# Altium footprint library con-vg.PCBLIB: 112 footprints (part 7 of 7)
Each footprint in its own frame and in the unit in brackets; x right, y up, seen from the top. Pads: shape width x height; smd on the part's side, far side on the other; paste and mask are expansions set on the pad; w line width, h text height; cw(c..) or ccw(c..) is an arc to the next point about the centre after c.
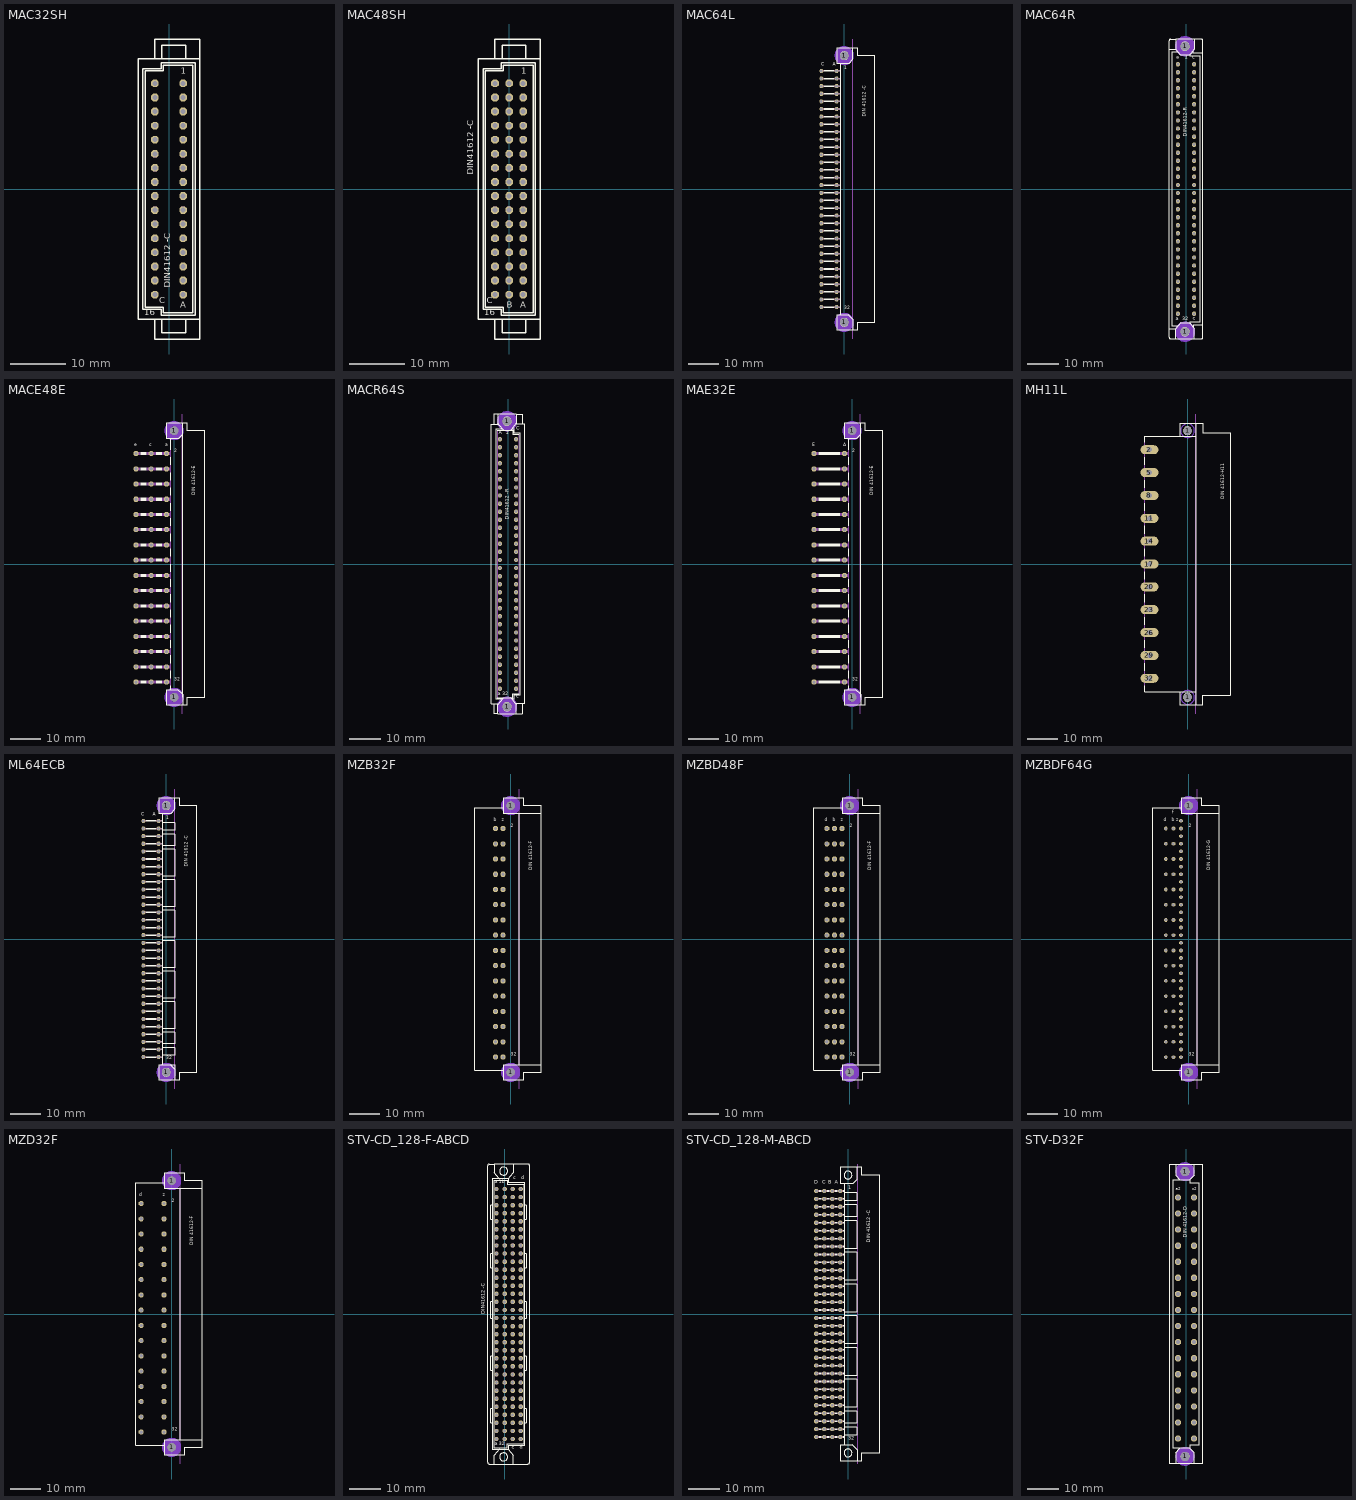
[diagram p6: the footprints below, top view; thin cyan lines are the x and y axes]

## MAC32SH [mil]
pads (32):
  oct 54x54 hole 36: A1(100,750) A2(100,650) A3(100,550) A4(100,450) A5(100,350) A6(100,250) A7(100,150) A8(100,50) A9(100,-50) A10(100,-150) A11(100,-250) A12(100,-350) A13(100,-450) A14(100,-550) A15(100,-650) A16(100,-750) C1(-100,750) C2(-100,650) C3(-100,550) C4(-100,450) C5(-100,350) C6(-100,250) C7(-100,150) C8(-100,50) C9(-100,-50) C10(-100,-150) C11(-100,-250) C12(-100,-350) C13(-100,-450) C14(-100,-550) C15(-100,-650) C16(-100,-750)
Top Overlay:
  lines w10: -100,-925 -220,-925 -220,925 -100,925 ; -100,-925 -50,-925 ; -100,-925 -100,-1065 220,-1065 220,-925 ; -100,925 -50,925 ; -100,925 -100,1065 220,1065 220,925 ; -50,-925 -50,-1020 120,-1020 120,-925 ; -50,-925 120,-925 ; -50,925 -50,1020 120,1020 120,925 ; -50,925 120,925 ; 120,-925 220,-925 ; 120,925 220,925 ; 220,-925 220,925 ; -185,-855 -55,-855 -55,-895 185,-895 185,895 -55,895 -55,855 -185,855 -185,-855 ; -170,-840 -170,840 -40,840 -40,880 170,880 170,-880 -40,-880 -40,-840 -170,-840
  text "1" at 85,800 h77.5
  text "C" at -70,-830 h77.5
  text "A" at 80,-860 h77.5
  text "16" at -175,-915 h77.5
  text "DIN41612 -C" at 25,-700 h77.5
Mechanical 16:
  rectangle: 85,-275 115,-225
  rectangle: 85,-75 115,-25
  rectangle: -115,-275 -85,-225
  rectangle: -115,-75 -85,-25
  rectangle: -115,125 -85,175
  rectangle: -115,325 -85,375
  rectangle: -115,525 -85,575
  rectangle: -115,725 -85,775
  rectangle: 85,125 115,175
  rectangle: 85,325 115,375
  rectangle: 85,525 115,575
  rectangle: 85,725 115,775
  rectangle: 85,-375 115,-325
  rectangle: 85,-175 115,-125
  rectangle: -115,-375 -85,-325
  rectangle: -115,-175 -85,-125
  rectangle: -115,25 -85,75
  rectangle: -115,225 -85,275
  rectangle: -115,425 -85,475
  rectangle: -115,625 -85,675
  rectangle: 85,25 115,75
  rectangle: 85,225 115,275
  rectangle: 85,425 115,475
  rectangle: 85,625 115,675
  rectangle: -115,-675 -85,-625
  rectangle: -115,-475 -85,-425
  rectangle: 85,-675 115,-625
  rectangle: 85,-475 115,-425
  rectangle: -115,-775 -85,-725
  rectangle: -115,-575 -85,-525
  rectangle: 85,-775 115,-725
  rectangle: 85,-575 115,-525

## MAC48SH [mil]
pads (48):
  oct 54x54 hole 36: A1(100,750) A2(100,650) A3(100,550) A4(100,450) A5(100,350) A6(100,250) A7(100,150) A8(100,50) A9(100,-50) A10(100,-150) A11(100,-250) A12(100,-350) A13(100,-450) A14(100,-550) A15(100,-650) A16(100,-750) B1(0,750) B2(0,650) B3(0,550) B4(0,450) B5(0,350) B6(0,250) B7(0,150) B8(0,50) B9(0,-50) B10(0,-150) B11(0,-250) B12(0,-350) B13(0,-450) B14(0,-550) B15(0,-650) B16(0,-750) C1(-100,750) C2(-100,650) C3(-100,550) C4(-100,450) C5(-100,350) C6(-100,250) C7(-100,150) C8(-100,50) C9(-100,-50) C10(-100,-150) C11(-100,-250) C12(-100,-350) C13(-100,-450) C14(-100,-550) C15(-100,-650) C16(-100,-750)
Top Overlay:
  lines w10: -100,-925 -220,-925 -220,925 -100,925 ; -100,-925 -50,-925 ; -100,-925 -100,-1065 220,-1065 220,-925 ; -100,925 -50,925 ; -100,925 -100,1065 220,1065 220,925 ; -50,-925 -50,-1020 120,-1020 120,-925 ; -50,-925 120,-925 ; -50,925 -50,1020 120,1020 120,925 ; -50,925 120,925 ; 120,-925 220,-925 ; 120,925 220,925 ; 220,-925 220,925 ; -185,-855 -55,-855 -55,-895 185,-895 185,895 -55,895 -55,855 -185,855 -185,-855 ; -170,-840 -170,840 -40,840 -40,880 170,880 170,-880 -40,-880 -40,-840 -170,-840
  text "1" at 85,800 h77.5
  text "C" at -160,-830 h77.5
  text "A" at 80,-860 h77.5
  text "B" at -15,-860 h77.5
  text "16" at -175,-915 h77.5
  text "DIN41612 -C" at -235,100 h77.5
Mechanical 16:
  rectangle: 85,-275 115,-225
  rectangle: 85,-75 115,-25
  rectangle: -115,-275 -85,-225
  rectangle: -115,-75 -85,-25
  rectangle: -115,125 -85,175
  rectangle: -115,325 -85,375
  rectangle: -115,525 -85,575
  rectangle: -115,725 -85,775
  rectangle: 85,125 115,175
  rectangle: 85,325 115,375
  rectangle: 85,525 115,575
  rectangle: 85,725 115,775
  rectangle: 85,-375 115,-325
  rectangle: 85,-175 115,-125
  rectangle: -115,-375 -85,-325
  rectangle: -115,-175 -85,-125
  rectangle: -115,25 -85,75
  rectangle: -115,225 -85,275
  rectangle: -115,425 -85,475
  rectangle: -115,625 -85,675
  rectangle: 85,25 115,75
  rectangle: 85,225 115,275
  rectangle: 85,425 115,475
  rectangle: 85,625 115,675
  rectangle: -115,-675 -85,-625
  rectangle: -115,-475 -85,-425
  rectangle: 85,-675 115,-625
  rectangle: 85,-475 115,-425
  rectangle: -115,-775 -85,-725
  rectangle: -115,-575 -85,-525
  rectangle: 85,-775 115,-725
  rectangle: 85,-575 115,-525
  rectangle: -15,-775 15,-725
  rectangle: -15,-675 15,-625
  rectangle: -15,-575 15,-525
  rectangle: -15,-475 15,-425
  rectangle: -15,-375 15,-325
  rectangle: -15,-275 15,-225
  rectangle: -15,-175 15,-125
  rectangle: -15,-75 15,-25
  rectangle: -15,25 15,75
  rectangle: -15,125 15,175
  rectangle: -15,225 15,275
  rectangle: -15,325 15,375
  rectangle: -15,425 15,475
  rectangle: -15,525 15,575
  rectangle: -15,625 15,675
  rectangle: -15,725 15,775

## MAC64L [mil]
pads (66):
  round 110 hole 110: 1(0,-1750) 1(0,1750)
  oct 54x54 hole 36: A1(-100,1550) A2(-100,1450) A3(-100,1350) A4(-100,1250) A5(-100,1150) A6(-100,1050) A7(-100,950) A8(-100,850) A9(-100,750) A10(-100,650) A11(-100,550) A12(-100,450) A13(-100,350) A14(-100,250) A15(-100,150) A16(-100,50) A17(-100,-50) A18(-100,-150) A19(-100,-250) A20(-100,-350) A21(-100,-450) A22(-100,-550) A23(-100,-650) A24(-100,-750) A25(-100,-850) A26(-100,-950) A27(-100,-1050) A28(-100,-1150) A29(-100,-1250) A30(-100,-1350) A31(-100,-1450) A32(-100,-1550) C1(-300,1550) C2(-300,1450) C3(-300,1350) C4(-300,1250) C5(-300,1150) C6(-300,1050) C7(-300,950) C8(-300,850) C9(-300,750) C10(-300,650) C11(-300,550) C12(-300,450) C13(-300,350) C14(-300,250) C15(-300,150) C16(-300,50) C17(-300,-50) C18(-300,-150) C19(-300,-250) C20(-300,-350) C21(-300,-450) C22(-300,-550) C23(-300,-650) C24(-300,-750) C25(-300,-850) C26(-300,-950) C27(-300,-1050) C28(-300,-1150) C29(-300,-1250) C30(-300,-1350) C31(-300,-1450) C32(-300,-1550)
Bottom Layer keep-out:
  circle w70: c0,1750 r90
  circle w70: c0,-1750 r90
Top Overlay:
  circle w10: c0,1750 r50
  circle w10: c0,-1750 r50
  rectangle: -65,1540 -50,1560
  rectangle: -265,1540 -135,1560
  rectangle: -265,1440 -135,1460
  rectangle: -265,1340 -135,1360
  rectangle: -65,1440 -50,1460
  rectangle: -65,1340 -50,1360
  rectangle: -65,1240 -50,1260
  rectangle: -265,1240 -135,1260
  rectangle: -65,1140 -50,1160
  rectangle: -65,1040 -50,1060
  rectangle: -265,1140 -135,1160
  rectangle: -265,1040 -135,1060
  rectangle: -265,940 -135,960
  rectangle: -65,940 -50,960
  rectangle: -65,840 -50,860
  rectangle: -265,840 -135,860
  rectangle: -265,740 -135,760
  rectangle: -65,740 -50,760
  rectangle: -265,640 -135,660
  rectangle: -65,640 -50,660
  rectangle: -265,540 -135,560
  rectangle: -65,540 -50,560
  rectangle: -65,440 -50,460
  rectangle: -65,340 -50,360
  rectangle: -265,440 -135,460
  rectangle: -265,340 -135,360
  rectangle: -265,240 -135,260
  rectangle: -65,240 -50,260
  rectangle: -65,140 -50,160
  rectangle: -265,140 -135,160
  rectangle: -265,40 -135,60
  rectangle: -65,40 -50,60
  rectangle: -65,-60 -50,-40
  rectangle: -265,-60 -135,-40
  rectangle: -65,-160 -50,-140
  rectangle: -265,-160 -135,-140
  rectangle: -265,-260 -135,-240
  rectangle: -65,-260 -50,-240
  rectangle: -265,-360 -135,-340
  rectangle: -65,-360 -50,-340
  rectangle: -65,-460 -50,-440
  rectangle: -65,-560 -50,-540
  rectangle: -265,-460 -135,-440
  rectangle: -265,-560 -135,-540
  rectangle: -65,-660 -50,-640
  rectangle: -265,-660 -135,-640
  rectangle: -265,-760 -135,-740
  rectangle: -65,-760 -50,-740
  rectangle: -265,-860 -135,-840
  rectangle: -65,-860 -50,-840
  rectangle: -265,-960 -135,-940
  rectangle: -65,-960 -50,-940
  rectangle: -265,-1060 -135,-1040
  rectangle: -65,-1060 -50,-1040
  rectangle: -265,-1160 -135,-1140
  rectangle: -65,-1160 -50,-1140
  rectangle: -265,-1260 -135,-1240
  rectangle: -65,-1260 -50,-1240
  rectangle: -65,-1360 -50,-1340
  rectangle: -265,-1360 -135,-1340
  rectangle: -265,-1460 -135,-1440
  rectangle: -65,-1460 -50,-1440
  rectangle: -65,-1560 -50,-1540
  rectangle: -265,-1560 -135,-1540
  lines w10: -50,-1650 -100,-1650 -100,-1850 113,-1850 ; -50,-1650 50,-1650 113,-1713 113,-1850 ; -50,-1650 -50,1650 ; -50,1650 -100,1650 -100,1850 113,1850 ; -50,1650 63,1650 113,1700 113,1850 ; 113,-1850 175,-1850 175,-1750 400,-1750 400,1750 175,1750 175,1850 113,1850
  text "C" at -300,1600 h77.5
  text "A" at -150,1600 h77.5
  text "1" at 0,1550 h77.5
  text "32" at 0,-1600 h77.5
  text "DIN 41612 -C" at 300,950 h77.5
Mechanical 1:
  lines w0: 110,-1969 110,1969
Mechanical 16:
  rectangle: -135,1540 -65,1560
  rectangle: -310,1540 -265,1560
  rectangle: -135,1440 -65,1460
  rectangle: -310,1440 -265,1460
  rectangle: -310,1340 -265,1360
  rectangle: -135,1340 -65,1360
  rectangle: -135,1240 -65,1260
  rectangle: -310,1240 -265,1260
  rectangle: -135,1140 -65,1160
  rectangle: -135,1040 -65,1060
  rectangle: -310,1140 -265,1160
  rectangle: -310,1040 -265,1060
  rectangle: -310,940 -265,960
  rectangle: -135,940 -65,960
  rectangle: -135,840 -65,860
  rectangle: -310,840 -265,860
  rectangle: -135,740 -65,760
  rectangle: -310,740 -265,760
  rectangle: -135,640 -65,660
  rectangle: -310,640 -265,660
  rectangle: -310,540 -265,560
  rectangle: -135,540 -65,560
  rectangle: -135,440 -65,460
  rectangle: -135,340 -65,360
  rectangle: -310,440 -265,460
  rectangle: -310,340 -265,360
  rectangle: -310,240 -265,260
  rectangle: -135,240 -65,260
  rectangle: -135,140 -65,160
  rectangle: -310,140 -265,160
  rectangle: -310,40 -265,60
  rectangle: -135,40 -65,60
  rectangle: -135,-60 -65,-40
  rectangle: -310,-60 -265,-40
  rectangle: -135,-160 -65,-140
  rectangle: -310,-160 -265,-140
  rectangle: -135,-260 -65,-240
  rectangle: -310,-260 -265,-240
  rectangle: -310,-360 -265,-340
  rectangle: -135,-360 -65,-340
  rectangle: -135,-460 -65,-440
  rectangle: -310,-460 -265,-440
  rectangle: -135,-660 -65,-640
  rectangle: -310,-660 -265,-640
  rectangle: -135,-560 -65,-540
  rectangle: -310,-560 -265,-540
  rectangle: -135,-760 -65,-740
  rectangle: -310,-760 -265,-740
  rectangle: -310,-860 -265,-840
  rectangle: -135,-860 -65,-840
  rectangle: -135,-960 -65,-940
  rectangle: -310,-960 -265,-940
  rectangle: -135,-1060 -65,-1040
  rectangle: -310,-1060 -265,-1040
  rectangle: -135,-1160 -65,-1140
  rectangle: -310,-1160 -265,-1140
  rectangle: -310,-1260 -265,-1240
  rectangle: -135,-1260 -65,-1240
  rectangle: -135,-1360 -65,-1340
  rectangle: -310,-1360 -265,-1340
  rectangle: -310,-1460 -265,-1440
  rectangle: -135,-1460 -65,-1440
  rectangle: -135,-1560 -65,-1540
  rectangle: -310,-1560 -265,-1540
Via Holes:
  circle w70: c0,1750 r90
  circle w70: c0,-1750 r90

## MAC64R [mil]
pads (66):
  round 110 hole 110: 1(-12,-1771.65) 1(-12,1771.65)
  oct 54x54 hole 36: A1(-100,1550) A2(-100,1450) A3(-100,1350) A4(-100,1250) A5(-100,1150) A6(-100,1050) A7(-100,950) A8(-100,850) A9(-100,750) A10(-100,650) A11(-100,550) A12(-100,450) A13(-100,350) A14(-100,250) A15(-100,150) A16(-100,50) A17(-100,-50) A18(-100,-150) A19(-100,-250) A20(-100,-350) A21(-100,-450) A22(-100,-550) A23(-100,-650) A24(-100,-750) A25(-100,-850) A26(-100,-950) A27(-100,-1050) A28(-100,-1150) A29(-100,-1250) A30(-100,-1350) A31(-100,-1450) A32(-100,-1550) C1(100,1550) C2(100,1450) C3(100,1350) C4(100,1250) C5(100,1150) C6(100,1050) C7(100,950) C8(100,850) C9(100,750) C10(100,650) C11(100,550) C12(100,450) C13(100,350) C14(100,250) C15(100,150) C16(100,50) C17(100,-50) C18(100,-150) C19(100,-250) C20(100,-350) C21(100,-450) C22(100,-550) C23(100,-650) C24(100,-750) C25(100,-850) C26(100,-950) C27(100,-1050) C28(100,-1150) C29(100,-1250) C30(100,-1350) C31(100,-1450) C32(100,-1550)
Bottom Layer keep-out:
  circle w70: c-12,1771.65 r90
  circle w70: c-12,-1771.65 r90
Top Overlay:
  circle w10: c-12,-1771.65 r50
  circle w10: c-12,1771.65 r50
  lines w10: -115,-1720 -115,-1700 -175,-1700 -175,1700 -115,1700 -115,1720 ; 55,1670 55,1650 175,1650 175,-1650 55,-1650 55,-1675 45,-1660 ; 90,-1715 90,-1685 210,-1685 ; 90,1715 90,1685 210,1685 ; -210,-1735 -210,-1840 ccw(c-190,-1840) -190,-1860 -125,-1860 ; -210,-1735 -210,1735 ; -210,-1735 -125,-1735 ; -210,1735 -210,1840 cw(c-190,1840) -190,1860 -125,1860 ; -210,1735 -125,1735 ; -125,-1860 -125,-1735 ; -125,-1860 105,-1860 ; -125,-1735 -65,-1660 45,-1660 ; -125,1735 -125,1860 ; -125,1735 -65,1660 45,1660 105,1735 105,1860 ; -125,1860 105,1860 ; 45,-1660 105,-1735 105,-1860 ; 105,-1860 190,-1860 ccw(c190,-1840) 210,-1840 210,-1685 ; 105,1860 190,1860 cw(c190,1840) 210,1840 210,1685 ; 210,-1685 210,1685
  text "32" at -45,-1645 h77.5
  text "a" at -125,-1645 h77.5
  text "c" at 85,-1640 h77.5
  text "1" at -15,1600 h77.5
  text "a" at -120,1595 h77.5
  text "c" at 80,1595 h77.5
  text "DIN41612-R" at 25,650 h77.5
Via Holes:
  circle w70: c-12,1771.65 r90
  circle w70: c-12,-1771.65 r90

## MACE48E [mil]
pads (50):
  round 110 hole 110: 1(0,-1750) 1(0,1750)
  oct 66x66 hole 44: A2(-100,1450) A4(-100,1250) A6(-100,1050) A8(-100,850) A10(-100,650) A12(-100,450) A14(-100,250) A16(-100,50) A18(-100,-150) A20(-100,-350) A22(-100,-550) A24(-100,-750) A26(-100,-950) A28(-100,-1150) A30(-100,-1350) A32(-100,-1550) C2(-300,1450) C4(-300,1250) C6(-300,1050) C8(-300,850) C10(-300,650) C12(-300,450) C14(-300,250) C16(-300,50) C18(-300,-150) C20(-300,-350) C22(-300,-550) C24(-300,-750) C26(-300,-950) C28(-300,-1150) C30(-300,-1350) C32(-300,-1550) E2(-500,1450) E4(-500,1250) E6(-500,1050) E8(-500,850) E10(-500,650) E12(-500,450) E14(-500,250) E16(-500,50) E18(-500,-150) E20(-500,-350) E22(-500,-550) E24(-500,-750) E26(-500,-950) E28(-500,-1150) E30(-500,-1350) E32(-500,-1550)
Bottom Layer keep-out:
  circle w70: c0,1750 r90
  circle w70: c0,-1750 r90
Top Overlay:
  rectangle: -240,1430 -160,1470
  rectangle: -440,1430 -360,1470
  rectangle: -240,1230 -160,1270
  rectangle: -440,1230 -360,1270
  rectangle: -240,1030 -160,1070
  rectangle: -440,1030 -360,1070
  rectangle: -240,830 -160,870
  rectangle: -440,830 -360,870
  rectangle: -240,630 -160,670
  rectangle: -440,630 -360,670
  rectangle: -240,430 -160,470
  rectangle: -440,430 -360,470
  rectangle: -240,230 -160,270
  rectangle: -440,230 -360,270
  rectangle: -240,30 -160,70
  rectangle: -440,30 -360,70
  rectangle: -240,-170 -160,-130
  rectangle: -440,-170 -360,-130
  rectangle: -240,-370 -160,-330
  rectangle: -440,-370 -360,-330
  rectangle: -240,-570 -160,-530
  rectangle: -440,-570 -360,-530
  rectangle: -240,-770 -160,-730
  rectangle: -440,-770 -360,-730
  rectangle: -240,-970 -160,-930
  rectangle: -440,-970 -360,-930
  rectangle: -240,-1170 -160,-1130
  rectangle: -440,-1170 -360,-1130
  rectangle: -240,-1370 -160,-1330
  rectangle: -440,-1370 -360,-1330
  rectangle: -240,-1570 -160,-1530
  rectangle: -440,-1570 -360,-1530
  lines w2: 109,-1750 109,1700
  lines w10: -50,-1600 -50,-1650 ; -50,-1500 -50,-1400 ; -50,-1300 -50,-1200 ; -50,-1100 -50,-1000 ; -50,-900 -50,-800 ; -50,-700 -50,-600 ; -50,-500 -50,-400 ; -50,-300 -50,-200 ; -50,-100 -50,0 ; -50,100 -50,200 ; -50,300 -50,400 ; -50,500 -50,600 ; -50,700 -50,800 ; -50,900 -50,1000 ; -50,1100 -50,1200 ; -50,1300 -50,1400 ; -50,1500 -50,1650 ; -50,-1650 -100,-1650 -100,-1850 113,-1850 ; -50,-1650 50,-1650 113,-1713 113,-1850 ; -50,1650 -100,1650 -100,1850 113,1850 ; -50,1650 63,1650 113,1700 113,1850 ; 113,-1850 175,-1850 175,-1750 400,-1750 400,1750 175,1750 175,1850 113,1850
  text "32" at 0,-1550 h77.5
  text "2" at 0,1450 h77.5
  text "DIN 41612-E" at 300,900 h77.5
  text "e" at -525,1525 h77.5
  text "c" at -325,1525 h77.5
  text "a" at -115,1525 h77.5
Mechanical 1:
  lines w0: 110,-1969 110,1969
Mechanical 16:
  rectangle: -160,1430 -50,1470
  rectangle: -360,1430 -240,1470
  rectangle: -510,1430 -440,1470
  rectangle: -160,1230 -50,1270
  rectangle: -360,1230 -240,1270
  rectangle: -510,1230 -440,1270
  rectangle: -160,1030 -50,1070
  rectangle: -360,1030 -240,1070
  rectangle: -510,1030 -440,1070
  rectangle: -160,830 -50,870
  rectangle: -360,830 -240,870
  rectangle: -510,830 -440,870
  rectangle: -160,630 -50,670
  rectangle: -360,630 -240,670
  rectangle: -510,630 -440,670
  rectangle: -160,430 -50,470
  rectangle: -360,430 -240,470
  rectangle: -510,430 -440,470
  rectangle: -160,230 -50,270
  rectangle: -360,230 -240,270
  rectangle: -510,230 -440,270
  rectangle: -160,30 -50,70
  rectangle: -360,30 -240,70
  rectangle: -510,30 -440,70
  rectangle: -160,-170 -50,-130
  rectangle: -360,-170 -240,-130
  rectangle: -510,-170 -440,-130
  rectangle: -160,-370 -50,-330
  rectangle: -360,-370 -240,-330
  rectangle: -510,-370 -440,-330
  rectangle: -160,-570 -50,-530
  rectangle: -360,-570 -240,-530
  rectangle: -510,-570 -440,-530
  rectangle: -160,-770 -50,-730
  rectangle: -360,-770 -240,-730
  rectangle: -510,-770 -440,-730
  rectangle: -160,-970 -50,-930
  rectangle: -360,-970 -240,-930
  rectangle: -510,-970 -440,-930
  rectangle: -160,-1170 -50,-1130
  rectangle: -360,-1170 -240,-1130
  rectangle: -510,-1170 -440,-1130
  rectangle: -160,-1370 -50,-1330
  rectangle: -360,-1370 -240,-1330
  rectangle: -510,-1370 -440,-1330
  rectangle: -160,-1570 -50,-1530
  rectangle: -360,-1570 -240,-1530
  rectangle: -510,-1570 -440,-1530
  lines w10: -50,-1650 -50,1650
Via Holes:
  circle w70: c0,1750 r90
  circle w70: c0,-1750 r90

## MACR64S [mil]
pads (66):
  round 110 hole 110: 1(-12,-1772) 1(-12,1772)
  oct 54x54 hole 36: A1(-100,1550) A2(-100,1450) A3(-100,1350) A4(-100,1250) A5(-100,1150) A6(-100,1050) A7(-100,950) A8(-100,850) A9(-100,750) A10(-100,650) A11(-100,550) A12(-100,450) A13(-100,350) A14(-100,250) A15(-100,150) A16(-100,50) A17(-100,-50) A18(-100,-150) A19(-100,-250) A20(-100,-350) A21(-100,-450) A22(-100,-550) A23(-100,-650) A24(-100,-750) A25(-100,-850) A26(-100,-950) A27(-100,-1050) A28(-100,-1150) A29(-100,-1250) A30(-100,-1350) A31(-100,-1450) A32(-100,-1550) C1(100,1550) C2(100,1450) C3(100,1350) C4(100,1250) C5(100,1150) C6(100,1050) C7(100,950) C8(100,850) C9(100,750) C10(100,650) C11(100,550) C12(100,450) C13(100,350) C14(100,250) C15(100,150) C16(100,50) C17(100,-50) C18(100,-150) C19(100,-250) C20(100,-350) C21(100,-450) C22(100,-550) C23(100,-650) C24(100,-750) C25(100,-850) C26(100,-950) C27(100,-1050) C28(100,-1150) C29(100,-1250) C30(100,-1350) C31(100,-1450) C32(100,-1550)
Bottom Layer keep-out:
  circle w70: c-12,-1772 r90
  circle w70: c-12,1772 r90
Top Overlay:
  circle w10: c-12,-1772 r50
  circle w10: c-12,1772 r50
  lines w10: -135,-1660 -55,-1660 ; -135,1660 -50,1660 ; -115,-1735 -175,-1735 ; -115,1735 -175,1735 ; 95,-1735 175,-1735 ; 95,1735 175,1735 ; 135,-1610 60,-1610 60,-1660 35,-1660 ; 135,1610 60,1610 60,1660 35,1660 ; -175,-1735 -210,-1735 -210,1735 -175,1735 ; -175,-1735 -175,-1860 -125,-1860 ; -175,1735 -175,1860 -125,1860 ; -125,-1860 -125,-1750 -65,-1675 ; -125,-1860 105,-1860 ; -125,1860 105,1860 ; -125,1860 -125,1750 -65,1675 ; -65,-1675 -150,-1675 -150,1675 -65,1675 ; -65,-1675 -55,-1660 ; -65,1675 -50,1660 ; -55,-1660 35,-1660 ; -50,1660 35,1660 ; 35,-1660 45,-1675 ; 35,1660 45,1675 ; 45,-1675 75,-1675 75,-1625 150,-1625 150,1625 75,1625 75,1675 45,1675 ; 45,-1675 105,-1750 105,-1860 ; 45,1675 105,1750 105,1860 ; 105,-1860 175,-1860 175,-1735 ; 105,1860 175,1860 175,1735 ; 175,-1735 210,-1735 210,1735 175,1735
  text "C" at 100,1650 h77.5
  text "32" at -70,-1650 h77.5
  text "A" at -115,1595 h77.5
  text "1" at -25,1595 h77.5
  text "DIN41612 -R" at 25,550 h77.5
  text "a" at -125,-1650 h77.5
  text "c" at 100,-1680.32 h77.5
Mechanical 16:
  rectangle: -110,-1560 -90,-1540
  rectangle: -110,-1460 -90,-1440
  rectangle: 90,-1560 110,-1540
  rectangle: 90,-1460 110,-1440
  rectangle: 90,-1360 110,-1340
  rectangle: -110,-1360 -90,-1340
  rectangle: -110,-1260 -90,-1240
  rectangle: 90,-1260 110,-1240
  rectangle: -110,-1160 -90,-1140
  rectangle: 90,-1160 110,-1140
  rectangle: 90,-1060 110,-1040
  rectangle: -110,-1060 -90,-1040
  rectangle: -110,-960 -90,-940
  rectangle: 90,-960 110,-940
  rectangle: -110,-860 -90,-840
  rectangle: -110,-760 -90,-740
  rectangle: 90,-860 110,-840
  rectangle: 90,-760 110,-740
  rectangle: -110,-660 -90,-640
  rectangle: -110,-560 -90,-540
  rectangle: 90,-660 110,-640
  rectangle: 90,-560 110,-540
  rectangle: -110,-460 -90,-440
  rectangle: -110,-360 -90,-340
  rectangle: -110,-260 -90,-240
  rectangle: 90,-460 110,-440
  rectangle: 90,-360 110,-340
  rectangle: 90,-260 110,-240
  rectangle: -110,-160 -90,-140
  rectangle: -110,-60 -90,-40
  rectangle: 90,-160 110,-140
  rectangle: 90,-60 110,-40
  rectangle: 90,40 110,60
  rectangle: -110,40 -90,60
  rectangle: -110,140 -90,160
  rectangle: 90,140 110,160
  rectangle: 90,240 110,260
  rectangle: -110,240 -90,260
  rectangle: 90,340 110,360
  rectangle: 90,440 110,460
  rectangle: -110,340 -90,360
  rectangle: -110,440 -90,460
  rectangle: 90,540 110,560
  rectangle: 90,640 110,660
  rectangle: -110,540 -90,560
  rectangle: -110,640 -90,660
  rectangle: -110,740 -90,760
  rectangle: -110,840 -90,860
  rectangle: 90,740 110,760
  rectangle: 90,840 110,860
  rectangle: 90,940 110,960
  rectangle: 90,1040 110,1060
  rectangle: 90,1140 110,1160
  rectangle: -110,940 -90,960
  rectangle: -110,1040 -90,1060
  rectangle: -110,1140 -90,1160
  rectangle: 90,1240 110,1260
  rectangle: 90,1340 110,1360
  rectangle: -110,1240 -90,1260
  rectangle: -110,1340 -90,1360
  rectangle: -110,1440 -90,1460
  rectangle: -110,1540 -90,1560
  rectangle: 90,1440 110,1460
  rectangle: 90,1540 110,1560
  lines w10: -135,-1660 -135,1660 ; 135,-1610 135,1610
Via Holes:
  circle w70: c-12,-1772 r90
  circle w70: c-12,1772 r90

## MAE32E [mil]
pads (34):
  round 110 hole 110: 1(0,-1750) 1(0,1750)
  oct 66x66 hole 44: A2(-100,1450) A4(-100,1250) A6(-100,1050) A8(-100,850) A10(-100,650) A12(-100,450) A14(-100,250) A16(-100,50) A18(-100,-150) A20(-100,-350) A22(-100,-550) A24(-100,-750) A26(-100,-950) A28(-100,-1150) A30(-100,-1350) A32(-100,-1550) E2(-500,1450) E4(-500,1250) E6(-500,1050) E8(-500,850) E10(-500,650) E12(-500,450) E14(-500,250) E16(-500,50) E18(-500,-150) E20(-500,-350) E22(-500,-550) E24(-500,-750) E26(-500,-950) E28(-500,-1150) E30(-500,-1350) E32(-500,-1550)
Bottom Layer keep-out:
  circle w70: c0,1750 r90
  circle w70: c0,-1750 r90
Top Overlay:
  rectangle: -440,1430 -160,1470
  rectangle: -440,1230 -160,1270
  rectangle: -440,1030 -160,1070
  rectangle: -440,830 -160,870
  rectangle: -440,630 -160,670
  rectangle: -440,430 -160,470
  rectangle: -440,230 -160,270
  rectangle: -440,30 -160,70
  rectangle: -440,-170 -160,-130
  rectangle: -440,-370 -160,-330
  rectangle: -440,-570 -160,-530
  rectangle: -440,-770 -160,-730
  rectangle: -440,-970 -160,-930
  rectangle: -440,-1170 -160,-1130
  rectangle: -440,-1370 -160,-1330
  rectangle: -440,-1570 -160,-1530
  lines w2: 109,-1750 109,1700
  lines w10: -50,-1600 -50,-1650 ; -50,-1500 -50,-1400 ; -50,-1300 -50,-1200 ; -50,-1100 -50,-1000 ; -50,-900 -50,-800 ; -50,-700 -50,-600 ; -50,-500 -50,-400 ; -50,-300 -50,-200 ; -50,-100 -50,0 ; -50,100 -50,200 ; -50,300 -50,400 ; -50,500 -50,600 ; -50,700 -50,800 ; -50,900 -50,1000 ; -50,1100 -50,1200 ; -50,1300 -50,1400 ; -50,1500 -50,1650 ; -50,-1650 -100,-1650 -100,-1850 113,-1850 ; -50,-1650 50,-1650 113,-1713 113,-1850 ; -50,1650 -100,1650 -100,1850 113,1850 ; -50,1650 63,1650 113,1700 113,1850 ; 113,-1850 175,-1850 175,-1750 400,-1750 400,1750 175,1750 175,1850 113,1850
  text "A" at -115,1525 h77.5
  text "32" at 0,-1550 h77.5
  text "2" at 0,1450 h77.5
  text "E" at -525,1525 h77.5
  text "DIN 41612-E" at 300,900 h77.5
Mechanical 1:
  lines w0: 110,-1969 110,1969
Mechanical 16:
  rectangle: -160,1430 -50,1470
  rectangle: -510,1430 -440,1470
  rectangle: -160,1230 -50,1270
  rectangle: -510,1230 -440,1270
  rectangle: -160,1030 -50,1070
  rectangle: -510,1030 -440,1070
  rectangle: -160,830 -50,870
  rectangle: -510,830 -440,870
  rectangle: -160,630 -50,670
  rectangle: -510,630 -440,670
  rectangle: -160,430 -50,470
  rectangle: -510,430 -440,470
  rectangle: -160,230 -50,270
  rectangle: -510,230 -440,270
  rectangle: -160,30 -50,70
  rectangle: -510,30 -440,70
  rectangle: -160,-170 -50,-130
  rectangle: -510,-170 -440,-130
  rectangle: -160,-370 -50,-330
  rectangle: -510,-370 -440,-330
  rectangle: -160,-570 -50,-530
  rectangle: -510,-570 -440,-530
  rectangle: -160,-770 -50,-730
  rectangle: -510,-770 -440,-730
  rectangle: -160,-970 -50,-930
  rectangle: -510,-970 -440,-930
  rectangle: -160,-1170 -50,-1130
  rectangle: -510,-1170 -440,-1130
  rectangle: -160,-1370 -50,-1330
  rectangle: -510,-1370 -440,-1330
  rectangle: -160,-1570 -50,-1530
  rectangle: -510,-1570 -440,-1530
  lines w10: -50,-1650 -50,1650
Via Holes:
  circle w70: c0,1750 r90
  circle w70: c0,-1750 r90

## MH11L [mm]
pads (13):
  round 2.794 hole 2.794: 1(0,-44.45) 1(0,44.45)
  oval 6x3 hole 1.676: 2(-12.7,38.1) 5(-12.7,30.48) 8(-12.7,22.86) 11(-12.7,15.24) 14(-12.7,7.62) 17(-12.7,0) 20(-12.7,-7.62) 23(-12.7,-15.24) 26(-12.7,-22.86) 29(-12.7,-30.48) 32(-12.7,-38.1)
Bottom Layer keep-out:
  circle w0.254: c0,-44.45 r2.286
  circle w0.254: c0,44.45 r2.286
Top Overlay:
  circle w0.254: c0,-44.45 r1.27
  circle w0.254: c0,44.45 r1.27
  lines w0.051: 2.794,-42.418 2.794,42.418
  lines w0.254: -14.376,-42.545 -14.376,-40.64 ; -14.376,-35.56 -14.376,-33.02 ; -14.376,-27.94 -14.376,-25.4 ; -14.376,-20.32 -14.376,-17.78 ; -14.376,-12.7 -14.376,-10.16 ; -14.376,-5.08 -14.376,-2.54 ; -14.376,2.54 -14.376,5.08 ; -14.376,10.16 -14.376,12.7 ; -14.376,17.78 -14.376,20.32 ; -14.376,25.4 -14.376,27.94 ; -14.376,33.02 -14.376,35.56 ; -14.376,40.64 -14.376,42.545 ; -14.313,-42.6 2.794,-42.6 2.794,-46.99 ; -14.313,42.6 2.794,42.6 2.794,46.99 ; -2.54,-42.672 -2.54,-46.99 2.794,-46.99 ; -2.54,42.672 -2.54,46.99 2.794,46.99 ; 2.794,-46.99 5.08,-46.99 5.08,-43.815 14.224,-43.815 14.224,43.815 5.08,43.815 5.08,46.99 2.794,46.99
  text "DIN 41612-H11" at 12.7,21.59 h1.97
Mechanical 1:
  lines w0: 2.794,-50.013 2.794,50.013
Mechanical 16:
  lines w0.254: -14.376,-40.64 -14.376,-35.56 ; -14.376,-33.02 -14.376,-27.94 ; -14.376,-25.4 -14.376,-20.32 ; -14.376,-17.78 -14.376,-12.7 ; -14.376,-10.16 -14.376,-5.08 ; -14.376,-2.54 -14.376,2.54 ; -14.376,5.08 -14.376,10.16 ; -14.376,12.7 -14.376,17.78 ; -14.376,20.32 -14.376,25.4 ; -14.376,27.94 -14.376,33.02 ; -14.376,35.56 -14.376,40.64
Via Holes:
  circle w0.254: c0,-44.45 r2.286
  circle w0.254: c0,44.45 r2.286

## ML64ECB [mil]
pads (66):
  round 110 hole 110: 1(0,-1750) 1(0,1750)
  oct 54x54 hole 36: 10C(-300,650) 11C(-300,550) 12A(-100,450) 12C(-300,450) 13A(-100,350) 13C(-300,350) 14A(-100,250) 15A(-100,150) 15C(-300,150) 16A(-100,50) 16C(-300,50) 17A(-100,-50) 19A(-100,-250) 19C(-300,-250) 21A(-100,-450) 22A(-100,-550) 23A(-100,-650) 23C(-300,-650) 24A(-100,-750) 25A(-100,-850) 26A(-100,-950) 26C(-300,-950) +5V(-100,1550) +5V@1(-300,1550) A0(-300,1150) A1(-300,950) A2(-100,1050) A3(-300,1050) A4(-100,950) A5(-100,850) A6(-100,750) A7(-300,750) A8(-300,850) A9(-100,-1350) A10(-300,-150) A11(-300,-50) A12(-300,-1050) A13(-100,-1250) A14(-100,-150) A15(-300,-1150) BUSAK(-100,-1450) BUSRQ(-100,550) CLK(-300,-1250) D0(-300,1450) D1(-300,250) D2(-300,1250) D3(-100,1250) D4(-100,1150) D5(-100,1450) D6(-100,1350) D7(-300,1350) GND(-100,-1550) GND@1(-300,-1550) HALT(-300,-850) INT(-300,-450) IORQ(-100,-1050) M1(-100,-350) MREQ(-300,-1350) NMI(-300,-350) RD(-300,-750) RESET(-300,-1450) RFSH(-100,-1150) WAIT(-100,650) WR(-300,-550)
Bottom Layer keep-out:
  circle w70: c0,1750 r90
  circle w70: c0,-1750 r90
Top Overlay:
  circle w10: c0,1750 r50
  circle w10: c0,-1750 r50
  rectangle: -65,1540 -50,1560
  rectangle: -265,1540 -135,1560
  rectangle: -265,1440 -135,1460
  rectangle: -265,1340 -135,1360
  rectangle: -65,1440 -50,1460
  rectangle: -65,1340 -50,1360
  rectangle: -65,1240 -50,1260
  rectangle: -265,1240 -135,1260
  rectangle: -65,1140 -50,1160
  rectangle: -65,1040 -50,1060
  rectangle: -265,1140 -135,1160
  rectangle: -265,1040 -135,1060
  rectangle: -265,940 -135,960
  rectangle: -65,940 -50,960
  rectangle: -65,840 -50,860
  rectangle: -265,840 -135,860
  rectangle: -265,740 -135,760
  rectangle: -65,740 -50,760
  rectangle: -265,640 -135,660
  rectangle: -65,640 -50,660
  rectangle: -265,540 -135,560
  rectangle: -65,540 -50,560
  rectangle: -65,440 -50,460
  rectangle: -65,340 -50,360
  rectangle: -265,440 -135,460
  rectangle: -265,340 -135,360
  rectangle: -265,240 -135,260
  rectangle: -65,240 -50,260
  rectangle: -65,140 -50,160
  rectangle: -265,140 -135,160
  rectangle: -265,40 -135,60
  rectangle: -65,40 -50,60
  rectangle: -65,-60 -50,-40
  rectangle: -265,-60 -135,-40
  rectangle: -65,-160 -50,-140
  rectangle: -265,-160 -135,-140
  rectangle: -265,-260 -135,-240
  rectangle: -65,-260 -50,-240
  rectangle: -265,-360 -135,-340
  rectangle: -65,-360 -50,-340
  rectangle: -65,-460 -50,-440
  rectangle: -65,-560 -50,-540
  rectangle: -265,-460 -135,-440
  rectangle: -265,-560 -135,-540
  rectangle: -65,-660 -50,-640
  rectangle: -265,-660 -135,-640
  rectangle: -265,-760 -135,-740
  rectangle: -65,-760 -50,-740
  rectangle: -265,-860 -135,-840
  rectangle: -65,-860 -50,-840
  rectangle: -265,-960 -135,-940
  rectangle: -65,-960 -50,-940
  rectangle: -265,-1060 -135,-1040
  rectangle: -65,-1060 -50,-1040
  rectangle: -265,-1160 -135,-1140
  rectangle: -65,-1160 -50,-1140
  rectangle: -265,-1260 -135,-1240
  rectangle: -65,-1260 -50,-1240
  rectangle: -65,-1360 -50,-1340
  rectangle: -265,-1360 -135,-1340
  rectangle: -265,-1460 -135,-1440
  rectangle: -65,-1460 -50,-1440
  rectangle: -65,-1560 -50,-1540
  rectangle: -265,-1560 -135,-1540
  lines w10: -50,-1650 -100,-1650 -100,-1850 113,-1850 ; -50,-1650 50,-1650 ; -50,-1650 -50,-1525 ; -50,-1525 -50,-1425 ; -50,-1525 110,-1525 110,-1425 -50,-1425 ; -50,-1425 -50,-1375 ; -50,-1375 -50,-1225 ; -50,-1375 110,-1375 110,-1225 -50,-1225 ; -50,-1225 -50,-1175 ; -50,-1175 -50,-825 ; -50,-1175 110,-1175 110,-825 -50,-825 ; -50,-825 -50,-775 ; -50,-775 -50,-425 ; -50,-775 110,-775 110,-425 -50,-425 ; -50,-425 -50,-375 ; -50,-375 -50,-25 ; -50,-375 110,-375 110,-25 -50,-25 ; -50,-25 -50,25 ; -50,25 -50,375 ; -50,25 110,25 110,375 -50,375 ; -50,375 -50,425 ; -50,425 -50,775 ; -50,425 110,425 110,775 -50,775 ; -50,775 -50,825 ; -50,825 -50,1175 ; -50,825 110,825 110,1175 -50,1175 ; -50,1175 -50,1225 ; -50,1225 -50,1375 ; -50,1225 110,1225 110,1375 -50,1375 ; -50,1375 -50,1425 ; -50,1425 -50,1525 ; -50,1425 110,1425 110,1525 -50,1525 ; -50,1525 -50,1650 ; -50,1650 -100,1650 -100,1850 113,1850 ; -50,1650 63,1650 113,1700 113,1850 ; 50,-1650 113,-1713 ; 50,-1650 113,-1650 113,-1713 ; 113,-1850 175,-1850 175,-1750 400,-1750 400,1750 175,1750 175,1850 113,1850 ; 113,-1850 113,-1713
  text "C" at -325,1600 h77.5
  text "A" at -175,1600 h77.5
  text "1" at 0,1550 h77.5
  text "32" at 0,-1600 h77.5
  text "DIN 41612 -C" at 300,950 h77.5
Mechanical 1:
  lines w0: 110,-1969 110,1969
Mechanical 16:
  rectangle: -135,1540 -65,1560
  rectangle: -310,1540 -265,1560
  rectangle: -135,1440 -65,1460
  rectangle: -310,1440 -265,1460
  rectangle: -310,1340 -265,1360
  rectangle: -135,1340 -65,1360
  rectangle: -135,1240 -65,1260
  rectangle: -310,1240 -265,1260
  rectangle: -135,1140 -65,1160
  rectangle: -135,1040 -65,1060
  rectangle: -310,1140 -265,1160
  rectangle: -310,1040 -265,1060
  rectangle: -310,940 -265,960
  rectangle: -135,940 -65,960
  rectangle: -135,840 -65,860
  rectangle: -310,840 -265,860
  rectangle: -135,740 -65,760
  rectangle: -310,740 -265,760
  rectangle: -135,640 -65,660
  rectangle: -310,640 -265,660
  rectangle: -310,540 -265,560
  rectangle: -135,540 -65,560
  rectangle: -135,440 -65,460
  rectangle: -135,340 -65,360
  rectangle: -310,440 -265,460
  rectangle: -310,340 -265,360
  rectangle: -310,240 -265,260
  rectangle: -135,240 -65,260
  rectangle: -135,140 -65,160
  rectangle: -310,140 -265,160
  rectangle: -310,40 -265,60
  rectangle: -135,40 -65,60
  rectangle: -135,-60 -65,-40
  rectangle: -310,-60 -265,-40
  rectangle: -135,-160 -65,-140
  rectangle: -310,-160 -265,-140
  rectangle: -135,-260 -65,-240
  rectangle: -310,-260 -265,-240
  rectangle: -310,-360 -265,-340
  rectangle: -135,-360 -65,-340
  rectangle: -135,-460 -65,-440
  rectangle: -310,-460 -265,-440
  rectangle: -135,-660 -65,-640
  rectangle: -310,-660 -265,-640
  rectangle: -135,-560 -65,-540
  rectangle: -310,-560 -265,-540
  rectangle: -135,-760 -65,-740
  rectangle: -310,-760 -265,-740
  rectangle: -310,-860 -265,-840
  rectangle: -135,-860 -65,-840
  rectangle: -135,-960 -65,-940
  rectangle: -310,-960 -265,-940
  rectangle: -135,-1060 -65,-1040
  rectangle: -310,-1060 -265,-1040
  rectangle: -135,-1160 -65,-1140
  rectangle: -310,-1160 -265,-1140
  rectangle: -310,-1260 -265,-1240
  rectangle: -135,-1260 -65,-1240
  rectangle: -135,-1360 -65,-1340
  rectangle: -310,-1360 -265,-1340
  rectangle: -310,-1460 -265,-1440
  rectangle: -135,-1460 -65,-1440
  rectangle: -135,-1560 -65,-1540
  rectangle: -310,-1560 -265,-1540
Via Holes:
  circle w70: c0,1750 r90
  circle w70: c0,-1750 r90

## MZB32F [mil]
pads (34):
  round 110 hole 110: 1(0,-1750) 1(0,1750)
  oct 66x66 hole 44: B2(-200,1450) B4(-200,1250) B6(-200,1050) B8(-200,850) B10(-200,650) B12(-200,450) B14(-200,250) B16(-200,50) B18(-200,-150) B20(-200,-350) B22(-200,-550) B24(-200,-750) B26(-200,-950) B28(-200,-1150) B30(-200,-1350) B32(-200,-1550) Z2(-100,1450) Z4(-100,1250) Z6(-100,1050) Z8(-100,850) Z10(-100,650) Z12(-100,450) Z14(-100,250) Z16(-100,50) Z18(-100,-150) Z20(-100,-350) Z22(-100,-550) Z24(-100,-750) Z26(-100,-950) Z28(-100,-1150) Z30(-100,-1350) Z32(-100,-1550)
Bottom Layer keep-out:
  circle w70: c0,1750 r90
  circle w70: c0,-1750 r90
Top Overlay:
  lines w2: 109,-1650 109,1645
  lines w10: -470,-1723 -100,-1723 ; -470,-1720 -470,1720 ; -470,1723 -100,1723 ; 398,1650 -100,1650 -100,1723 ; -100,-1723 -100,-1650 109,-1650 400,-1650 ; -100,-1723 -100,-1850 175,-1850 175,-1750 400,-1750 400,-1650 ; -100,1723 -100,1850 175,1850 175,1750 400,1750 400,-1650
  text "32" at 0,-1550 h77.5
  text "2" at 0,1450 h77.5
  text "DIN 41612-F" at 300,900 h77.5
  text "b" at -225,1525 h77.5
  text "z" at -115,1525 h77.5
Mechanical 1:
  lines w0: 110,-1969 110,1969
Via Holes:
  circle w70: c0,1750 r90
  circle w70: c0,-1750 r90

## MZBD48F [mil]
pads (50):
  round 110 hole 110: 1(0,-1750) 1(0,1750)
  oct 66x66 hole 44: B2(-200,1450) B4(-200,1250) B6(-200,1050) B8(-200,850) B10(-200,650) B12(-200,450) B14(-200,250) B16(-200,50) B18(-200,-150) B20(-200,-350) B22(-200,-550) B24(-200,-750) B26(-200,-950) B28(-200,-1150) B30(-200,-1350) B32(-200,-1550) D2(-300,1450) D4(-300,1250) D6(-300,1050) D8(-300,850) D10(-300,650) D12(-300,450) D14(-300,250) D16(-300,50) D18(-300,-150) D20(-300,-350) D22(-300,-550) D24(-300,-750) D26(-300,-950) D28(-300,-1150) D30(-300,-1350) D32(-300,-1550) Z2(-100,1450) Z4(-100,1250) Z6(-100,1050) Z8(-100,850) Z10(-100,650) Z12(-100,450) Z14(-100,250) Z16(-100,50) Z18(-100,-150) Z20(-100,-350) Z22(-100,-550) Z24(-100,-750) Z26(-100,-950) Z28(-100,-1150) Z30(-100,-1350) Z32(-100,-1550)
Bottom Layer keep-out:
  circle w70: c0,1750 r90
  circle w70: c0,-1750 r90
Top Overlay:
  lines w2: 109,-1650 109,1645
  lines w10: -470,-1723 -100,-1723 ; -470,-1720 -470,1720 ; -470,1723 -100,1723 ; 398,1650 -100,1650 -100,1723 ; -100,-1723 -100,-1650 109,-1650 400,-1650 ; -100,-1723 -100,-1850 175,-1850 175,-1750 400,-1750 400,-1650 ; -100,1723 -100,1850 175,1850 175,1750 400,1750 400,-1650
  text "32" at 0,-1550 h77.5
  text "2" at 0,1450 h77.5
  text "DIN 41612-F" at 300,900 h77.5
  text "d" at -325,1525 h77.5
  text "b" at -225,1525 h77.5
  text "z" at -115,1525 h77.5
Mechanical 1:
  lines w0: 110,-1969 110,1969
Via Holes:
  circle w70: c0,1750 r90
  circle w70: c0,-1750 r90

## MZBDF64G [mil]
pads (66):
  round 110 hole 110: 1(0,-1750) 1(0,1750)
  oct 48x48 hole 32: B2(-200,1450) B4(-200,1250) B6(-200,1050) B8(-200,850) B10(-200,650) B12(-200,450) B14(-200,250) B16(-200,50) B18(-200,-150) B20(-200,-350) B22(-200,-550) B24(-200,-750) B26(-200,-950) B28(-200,-1150) B30(-200,-1350) B32(-200,-1550) D2(-300,1450) D4(-300,1250) D6(-300,1050) D8(-300,850) D10(-300,650) D12(-300,450) D14(-300,250) D16(-300,50) D18(-300,-150) D20(-300,-350) D22(-300,-550) D24(-300,-750) D26(-300,-950) D28(-300,-1150) D30(-300,-1350) D32(-300,-1550) F2(-100,1550) F4(-100,1350) F6(-100,1150) F8(-100,950) F10(-100,750) F12(-100,550) F14(-100,350) F16(-100,150) F18(-100,-50) F20(-100,-250) F22(-100,-450) F24(-100,-650) F26(-100,-850) F28(-100,-1050) F30(-100,-1250) F32(-100,-1450) Z2(-100,1450) Z4(-100,1250) Z6(-100,1050) Z8(-100,850) Z10(-100,650) Z12(-100,450) Z14(-100,250) Z16(-100,50) Z18(-100,-150) Z20(-100,-350) Z22(-100,-550) Z24(-100,-750) Z26(-100,-950) Z28(-100,-1150) Z30(-100,-1350) Z32(-100,-1550)
Bottom Layer keep-out:
  circle w70: c0,1750 r90
  circle w70: c0,-1750 r90
Top Overlay:
  lines w2: 109,-1650 109,1645
  lines w10: -470,-1723 -100,-1723 ; -470,-1720 -470,1720 ; -470,1723 -100,1723 ; 398,1650 -100,1650 -100,1723 ; -100,-1723 -100,-1650 109,-1650 400,-1650 ; -100,-1723 -100,-1850 175,-1850 175,-1750 400,-1750 400,-1650 ; -100,1723 -100,1850 175,1850 175,1750 400,1750 400,-1650
  text "32" at 0,-1550 h77.5
  text "2" at 0,1450 h77.5
  text "d" at -325,1525 h77.5
  text "b" at -225,1525 h77.5
  text "z" at -165,1525 h77.5
  text "f" at -215,1625 h77.5
  text "DIN 41612-G" at 300,900 h77.5
Mechanical 1:
  lines w0: 110,-1969 110,1969
Via Holes:
  circle w70: c0,1750 r90
  circle w70: c0,-1750 r90

## MZD32F [mil]
pads (34):
  round 110 hole 110: 1(0,-1750) 1(0,1750)
  oct 66x66 hole 44: D2(-400,1450) D4(-400,1250) D6(-400,1050) D8(-400,850) D10(-400,650) D12(-400,450) D14(-400,250) D16(-400,50) D18(-400,-150) D20(-400,-350) D22(-400,-550) D24(-400,-750) D26(-400,-950) D28(-400,-1150) D30(-400,-1350) D32(-400,-1550) Z2(-100,1450) Z4(-100,1250) Z6(-100,1050) Z8(-100,850) Z10(-100,650) Z12(-100,450) Z14(-100,250) Z16(-100,50) Z18(-100,-150) Z20(-100,-350) Z22(-100,-550) Z24(-100,-750) Z26(-100,-950) Z28(-100,-1150) Z30(-100,-1350) Z32(-100,-1550)
Bottom Layer keep-out:
  circle w70: c0,1750 r90
  circle w70: c0,-1750 r90
Top Overlay:
  lines w2: 109,-1650 109,1645
  lines w10: -470,-1723 -100,-1723 ; -470,-1720 -470,1720 ; -470,1723 -100,1723 ; 398,1650 -100,1650 -100,1723 ; -100,-1723 -100,-1650 109,-1650 400,-1650 ; -100,-1723 -100,-1850 175,-1850 175,-1750 400,-1750 400,-1650 ; -100,1723 -100,1850 175,1850 175,1750 400,1750 400,-1650
  text "32" at 0,-1550 h77.5
  text "2" at 0,1450 h77.5
  text "DIN 41612-F" at 300,900 h77.5
  text "d" at -425,1525 h77.5
  text "z" at -115,1525 h77.5
Mechanical 1:
  lines w0: 110,-1969 110,1969
Via Holes:
  circle w70: c0,1750 r90
  circle w70: c0,-1750 r90

## STV-CD_128-F-ABCD [mil]
pads (128):
  oct 54x54 hole 36: A1(-100,1550) A2(-100,1450) A3(-100,1350) A4(-100,1250) A5(-100,1150) A6(-100,1050) A7(-100,950) A8(-100,850) A9(-100,750) A10(-100,650) A11(-100,550) A12(-100,450) A13(-100,350) A14(-100,250) A15(-100,150) A16(-100,50) A17(-100,-50) A18(-100,-150) A19(-100,-250) A20(-100,-350) A21(-100,-450) A22(-100,-550) A23(-100,-650) A24(-100,-750) A25(-100,-850) A26(-100,-950) A27(-100,-1050) A28(-100,-1150) A29(-100,-1250) A30(-100,-1350) A31(-100,-1450) A32(-100,-1550) B1(0,1550) B2(0,1450) B3(0,1350) B4(0,1250) B5(0,1150) B6(0,1050) B7(0,950) B8(0,850) B9(0,750) B10(0,650) B11(0,550) B12(0,450) B13(0,350) B14(0,250) B15(0,150) B16(0,50) B17(0,-50) B18(0,-150) B19(0,-250) B20(0,-350) B21(0,-450) B22(0,-550) B23(0,-650) B24(0,-750) B25(0,-850) B26(0,-950) B27(0,-1050) B28(0,-1150) B29(0,-1250) B30(0,-1350) B31(0,-1450) B32(0,-1550) C1(100,1550) C2(100,1450) C3(100,1350) C4(100,1250) C5(100,1150) C6(100,1050) C7(100,950) C8(100,850) C9(100,750) C10(100,650) C11(100,550) C12(100,450) C13(100,350) C14(100,250) C15(100,150) C16(100,50) C17(100,-50) C18(100,-150) C19(100,-250) C20(100,-350) C21(100,-450) C22(100,-550) C23(100,-650) C24(100,-750) C25(100,-850) C26(100,-950) C27(100,-1050) C28(100,-1150) C29(100,-1250) C30(100,-1350) C31(100,-1450) C32(100,-1550) D1(200,1550) D2(200,1450) D3(200,1350) D4(200,1250) D5(200,1150) D6(200,1050) D7(200,950) D8(200,850) D9(200,750) D10(200,650) D11(200,550) D12(200,450) D13(200,350) D14(200,250) D15(200,150) D16(200,50) D17(200,-50) D18(200,-150) D19(200,-250) D20(200,-350) D21(200,-450) D22(200,-550) D23(200,-650) D24(200,-750) D25(200,-850) D26(200,-950) D27(200,-1050) D28(200,-1150) D29(200,-1250) D30(200,-1350) D31(200,-1450) D32(200,-1550)
Top Overlay:
  circle w6: c-12,-1772 r50
  circle w6: c-12,1772 r50
  lines w2: -150,-1350 -170,-1350 -170,-1175 -150,-1175 ; -150,-700 -170,-700 -170,-525 -150,-525 ; -150,-50 -170,-50 -170,150 -150,150 ; -150,575 -170,575 -170,750 -150,750 ; -150,1175 -170,1175 -170,1350 -150,1350 ; -135,-1660 35,-1660 ; -135,1660 35,1660 35,1610 235,1610 235,-1610 35,-1610 ; 250,-1350 270,-1350 270,-1175 250,-1175 ; 250,-700 270,-700 270,-525 250,-525 ; 250,-50 270,-50 270,150 250,150 ; 250,575 270,575 270,750 250,750 ; 250,1175 270,1175 270,1350 250,1350
  lines w6: -135,-1660 -135,1660 ; 35,-1660 35,-1610 ; -125,-1860 -125,-1750 -65,-1675 ; -125,-1860 105,-1860 ; -125,-1860 -190,-1860 cw(c-190,-1840) -210,-1840 -210,1840 cw(c-190,1840) -190,1860 -125,1860 ; -125,1860 105,1860 ; -125,1860 -125,1750 -65,1675 ; -65,-1675 -150,-1675 -150,-1175 -150,-700 -150,-525 -150,-50 -150,150 -150,575 -150,750 -150,1175 -150,1350 -150,1675 -65,1675 ; -65,-1675 45,-1675 ; -65,1675 45,1675 ; 45,-1675 50,-1675 50,-1625 250,-1625 250,-1350 250,-1175 250,-700 250,-525 250,-50 250,150 250,575 250,750 250,1175 250,1625 50,1625 50,1675 45,1675 ; 45,-1675 105,-1750 105,-1860 ; 45,1675 105,1750 105,1860 ; 105,-1860 290,-1860 ccw(c290,-1840) 310,-1840 310,1840 ccw(c290,1840) 290,1860 105,1860
  text "c" at 105,1650 h77.5
  text "32" at -70,-1645 h77.5
  text "a" at -120,1600 h77.5
  text "1b" at -70,1600 h77.5
  text "DIN41612 -C" at -225,0 h77.5
  text "a" at -120,-1645 h77.5
  text "c" at 88.07,-1687.13 h77.5
  text "d" at 205,1650 h77.5
  text "d" at 188.07,-1687.13 h77.5
Mechanical 16:
  rectangle: 85,525 115,575
  rectangle: 85,725 115,775
  rectangle: -115,525 -85,575
  rectangle: -115,725 -85,775
  rectangle: -115,925 -85,975
  rectangle: -115,1125 -85,1175
  rectangle: -115,1325 -85,1375
  rectangle: -115,1525 -85,1575
  rectangle: 85,925 115,975
  rectangle: 85,1125 115,1175
  rectangle: 85,1325 115,1375
  rectangle: 85,1525 115,1575
  rectangle: 85,425 115,475
  rectangle: 85,625 115,675
  rectangle: -115,425 -85,475
  rectangle: -115,625 -85,675
  rectangle: -115,825 -85,875
  rectangle: -115,1025 -85,1075
  rectangle: -115,1225 -85,1275
  rectangle: -115,1425 -85,1475
  rectangle: 85,825 115,875
  rectangle: 85,1025 115,1075
  rectangle: 85,1225 115,1275
  rectangle: 85,1425 115,1475
  rectangle: 85,-675 115,-625
  rectangle: 85,-475 115,-425
  rectangle: -115,-675 -85,-625
  rectangle: -115,-475 -85,-425
  rectangle: -115,-275 -85,-225
  rectangle: -115,-75 -85,-25
  rectangle: -115,125 -85,175
  rectangle: -115,325 -85,375
  rectangle: 85,-275 115,-225
  rectangle: 85,-75 115,-25
  rectangle: 85,125 115,175
  rectangle: 85,325 115,375
  rectangle: 85,-775 115,-725
  rectangle: 85,-575 115,-525
  rectangle: -115,-775 -85,-725
  rectangle: -115,-575 -85,-525
  rectangle: -115,-375 -85,-325
  rectangle: -115,-175 -85,-125
  rectangle: -115,25 -85,75
  rectangle: -115,225 -85,275
  rectangle: 85,-375 115,-325
  rectangle: 85,-175 115,-125
  rectangle: 85,25 115,75
  rectangle: 85,225 115,275
  rectangle: -115,-1475 -85,-1425
  rectangle: -115,-1275 -85,-1225
  rectangle: -115,-1075 -85,-1025
  rectangle: -115,-875 -85,-825
  rectangle: 85,-1475 115,-1425
  rectangle: 85,-1275 115,-1225
  rectangle: 85,-1075 115,-1025
  rectangle: 85,-875 115,-825
  rectangle: -115,-1575 -85,-1525
  rectangle: -115,-1375 -85,-1325
  rectangle: -115,-1175 -85,-1125
  rectangle: -115,-975 -85,-925
  rectangle: 85,-1575 115,-1525
  rectangle: 85,-1375 115,-1325
  rectangle: 85,-1175 115,-1125
  rectangle: 85,-975 115,-925
  rectangle: -15,525 15,575
  rectangle: -15,725 15,775
  rectangle: -15,925 15,975
  rectangle: -15,1125 15,1175
  rectangle: -15,1325 15,1375
  rectangle: -15,1525 15,1575
  rectangle: -15,425 15,475
  rectangle: -15,625 15,675
  rectangle: -15,825 15,875
  rectangle: -15,1025 15,1075
  rectangle: -15,1225 15,1275
  rectangle: -15,1425 15,1475
  rectangle: -15,-675 15,-625
  rectangle: -15,-475 15,-425
  rectangle: -15,-275 15,-225
  rectangle: -15,-75 15,-25
  rectangle: -15,125 15,175
  rectangle: -15,325 15,375
  rectangle: -15,-775 15,-725
  rectangle: -15,-575 15,-525
  rectangle: -15,-375 15,-325
  rectangle: -15,-175 15,-125
  rectangle: -15,25 15,75
  rectangle: -15,225 15,275
  rectangle: -15,-1475 15,-1425
  rectangle: -15,-1275 15,-1225
  rectangle: -15,-1075 15,-1025
  rectangle: -15,-875 15,-825
  rectangle: -15,-1575 15,-1525
  rectangle: -15,-1375 15,-1325
  rectangle: -15,-1175 15,-1125
  rectangle: -15,-975 15,-925
  rectangle: 185,1525 215,1575
  rectangle: 185,1425 215,1475
  rectangle: 185,1325 215,1375
  rectangle: 185,1225 215,1275
  rectangle: 185,1125 215,1175
  rectangle: 185,1025 215,1075
  rectangle: 185,925 215,975
  rectangle: 185,825 215,875
  rectangle: 185,725 215,775
  rectangle: 185,625 215,675
  rectangle: 185,525 215,575
  rectangle: 185,425 215,475
  rectangle: 185,325 215,375
  rectangle: 185,225 215,275
  rectangle: 185,125 215,175
  rectangle: 185,25 215,75
  rectangle: 185,-75 215,-25
  rectangle: 185,-175 215,-125
  rectangle: 185,-275 215,-225
  rectangle: 185,-375 215,-325
  rectangle: 185,-475 215,-425
  rectangle: 185,-575 215,-525
  rectangle: 185,-675 215,-625
  rectangle: 185,-775 215,-725
  rectangle: 185,-875 215,-825
  rectangle: 185,-975 215,-925
  rectangle: 185,-1075 215,-1025
  rectangle: 185,-1175 215,-1125
  rectangle: 185,-1275 215,-1225
  rectangle: 185,-1375 215,-1325
  rectangle: 185,-1475 215,-1425
  rectangle: 185,-1575 215,-1525

## STV-CD_128-M-ABCD [mil]
pads (128):
  oct 54x54 hole 36: A1(-100,1550) A2(-100,1450) A3(-100,1350) A4(-100,1250) A5(-100,1150) A6(-100,1050) A7(-100,950) A8(-100,850) A9(-100,750) A10(-100,650) A11(-100,550) A12(-100,450) A13(-100,350) A14(-100,250) A15(-100,150) A16(-100,50) A17(-100,-50) A18(-100,-150) A19(-100,-250) A20(-100,-350) A21(-100,-450) A22(-100,-550) A23(-100,-650) A24(-100,-750) A25(-100,-850) A26(-100,-950) A27(-100,-1050) A28(-100,-1150) A29(-100,-1250) A30(-100,-1350) A31(-100,-1450) A32(-100,-1550) B1(-200,1550) B2(-200,1450) B3(-200,1350) B4(-200,1250) B5(-200,1150) B6(-200,1050) B7(-200,950) B8(-200,850) B9(-200,750) B10(-200,650) B11(-200,550) B12(-200,450) B13(-200,350) B14(-200,250) B15(-200,150) B16(-200,50) B17(-200,-50) B18(-200,-150) B19(-200,-250) B20(-200,-350) B21(-200,-450) B22(-200,-550) B23(-200,-650) B24(-200,-750) B25(-200,-850) B26(-200,-950) B27(-200,-1050) B28(-200,-1150) B29(-200,-1250) B30(-200,-1350) B31(-200,-1450) B32(-200,-1550) C1(-300,1550) C2(-300,1450) C3(-300,1350) C4(-300,1250) C5(-300,1150) C6(-300,1050) C7(-300,950) C8(-300,850) C9(-300,750) C10(-300,650) C11(-300,550) C12(-300,450) C13(-300,350) C14(-300,250) C15(-300,150) C16(-300,50) C17(-300,-50) C18(-300,-150) C19(-300,-250) C20(-300,-350) C21(-300,-450) C22(-300,-550) C23(-300,-650) C24(-300,-750) C25(-300,-850) C26(-300,-950) C27(-300,-1050) C28(-300,-1150) C29(-300,-1250) C30(-300,-1350) C31(-300,-1450) C32(-300,-1550) D1(-400,1550) D2(-400,1450) D3(-400,1350) D4(-400,1250) D5(-400,1150) D6(-400,1050) D7(-400,950) D8(-400,850) D9(-400,750) D10(-400,650) D11(-400,550) D12(-400,450) D13(-400,350) D14(-400,250) D15(-400,150) D16(-400,50) D17(-400,-50) D18(-400,-150) D19(-400,-250) D20(-400,-350) D21(-400,-450) D22(-400,-550) D23(-400,-650) D24(-400,-750) D25(-400,-850) D26(-400,-950) D27(-400,-1050) D28(-400,-1150) D29(-400,-1250) D30(-400,-1350) D31(-400,-1450) D32(-400,-1550)
Top Overlay:
  drawing of 200 lines, arcs and shapes, not listed
  text "C" at -325,1625 h77.5
  text "A" at -165,1625 h77.5
  text "1" at 0,1550 h77.5
  text "B" at -250,1625 h77.5
  text "32" at 0,-1600 h77.5
  text "DIN 41612 -C" at 300,900 h77.5
  text "D" at -425,1625 h77.5
Mechanical 1:
  lines w0: 118.11,-1889.76 118.11,1889.76
Mechanical 16:
  rectangle: -135,1540 -65,1560
  rectangle: -410,1540 -365,1560
  rectangle: -135,1440 -65,1460
  rectangle: -410,1440 -365,1460
  rectangle: -410,1340 -365,1360
  rectangle: -135,1340 -65,1360
  rectangle: -135,1240 -65,1260
  rectangle: -410,1240 -365,1260
  rectangle: -135,1140 -65,1160
  rectangle: -135,1040 -65,1060
  rectangle: -410,1140 -365,1160
  rectangle: -410,1040 -365,1060
  rectangle: -410,940 -365,960
  rectangle: -135,940 -65,960
  rectangle: -135,840 -65,860
  rectangle: -410,840 -365,860
  rectangle: -135,740 -65,760
  rectangle: -410,740 -365,760
  rectangle: -135,640 -65,660
  rectangle: -410,640 -365,660
  rectangle: -410,540 -365,560
  rectangle: -135,540 -65,560
  rectangle: -135,440 -65,460
  rectangle: -135,340 -65,360
  rectangle: -410,440 -365,460
  rectangle: -410,340 -365,360
  rectangle: -410,240 -365,260
  rectangle: -135,240 -65,260
  rectangle: -135,140 -65,160
  rectangle: -410,140 -365,160
  rectangle: -410,40 -365,60
  rectangle: -135,40 -65,60
  rectangle: -135,-60 -65,-40
  rectangle: -410,-60 -365,-40
  rectangle: -135,-160 -65,-140
  rectangle: -410,-160 -365,-140
  rectangle: -135,-260 -65,-240
  rectangle: -410,-260 -365,-240
  rectangle: -410,-360 -365,-340
  rectangle: -135,-360 -65,-340
  rectangle: -135,-460 -65,-440
  rectangle: -410,-460 -365,-440
  rectangle: -135,-660 -65,-640
  rectangle: -410,-660 -365,-640
  rectangle: -135,-560 -65,-540
  rectangle: -410,-560 -365,-540
  rectangle: -135,-760 -65,-740
  rectangle: -410,-760 -365,-740
  rectangle: -410,-860 -365,-840
  rectangle: -135,-860 -65,-840
  rectangle: -135,-960 -65,-940
  rectangle: -410,-960 -365,-940
  rectangle: -135,-1060 -65,-1040
  rectangle: -410,-1060 -365,-1040
  rectangle: -135,-1160 -65,-1140
  rectangle: -410,-1160 -365,-1140
  rectangle: -410,-1260 -365,-1240
  rectangle: -135,-1260 -65,-1240
  rectangle: -135,-1360 -65,-1340
  rectangle: -410,-1360 -365,-1340
  rectangle: -410,-1460 -365,-1440
  rectangle: -135,-1460 -65,-1440
  rectangle: -135,-1560 -65,-1540
  rectangle: -410,-1560 -365,-1540
  rectangle: -235,1540 -165,1560
  rectangle: -235,1440 -165,1460
  rectangle: -235,1340 -165,1360
  rectangle: -235,1240 -165,1260
  rectangle: -235,1140 -165,1160
  rectangle: -235,1040 -165,1060
  rectangle: -235,940 -165,960
  rectangle: -235,840 -165,860
  rectangle: -235,740 -165,760
  rectangle: -235,640 -165,660
  rectangle: -235,540 -165,560
  rectangle: -235,440 -165,460
  rectangle: -235,340 -165,360
  rectangle: -235,240 -165,260
  rectangle: -235,140 -165,160
  rectangle: -235,40 -165,60
  rectangle: -235,-60 -165,-40
  rectangle: -235,-160 -165,-140
  rectangle: -235,-260 -165,-240
  rectangle: -235,-360 -165,-340
  rectangle: -235,-460 -165,-440
  rectangle: -235,-560 -165,-540
  rectangle: -235,-660 -165,-640
  rectangle: -235,-760 -165,-740
  rectangle: -235,-860 -165,-840
  rectangle: -235,-960 -165,-940
  rectangle: -235,-1060 -165,-1040
  rectangle: -235,-1160 -165,-1140
  rectangle: -235,-1260 -165,-1240
  rectangle: -235,-1360 -165,-1340
  rectangle: -235,-1460 -165,-1440
  rectangle: -235,-1560 -165,-1540
  rectangle: -335,1540 -265,1560
  rectangle: -335,1440 -265,1460
  rectangle: -335,1340 -265,1360
  rectangle: -335,1240 -265,1260
  rectangle: -335,1140 -265,1160
  rectangle: -335,1040 -265,1060
  rectangle: -335,940 -265,960
  rectangle: -335,840 -265,860
  rectangle: -335,740 -265,760
  rectangle: -335,640 -265,660
  rectangle: -335,540 -265,560
  rectangle: -335,440 -265,460
  rectangle: -335,340 -265,360
  rectangle: -335,240 -265,260
  rectangle: -335,140 -265,160
  rectangle: -335,40 -265,60
  rectangle: -335,-60 -265,-40
  rectangle: -335,-160 -265,-140
  rectangle: -335,-260 -265,-240
  rectangle: -335,-360 -265,-340
  rectangle: -335,-460 -265,-440
  rectangle: -335,-560 -265,-540
  rectangle: -335,-660 -265,-640
  rectangle: -335,-760 -265,-740
  rectangle: -335,-860 -265,-840
  rectangle: -335,-960 -265,-940
  rectangle: -335,-1060 -265,-1040
  rectangle: -335,-1160 -265,-1140
  rectangle: -335,-1260 -265,-1240
  rectangle: -335,-1360 -265,-1340
  rectangle: -335,-1460 -265,-1440
  rectangle: -335,-1560 -265,-1540

## STV-D32F [mil]
pads (34):
  round 110.24 hole 110.24: 1(-11.81,-1771.65) 1(-11.81,1771.65)
  oct 76.77x76.77 hole 51.18: A2(-100,1450) A4(-100,1250) A6(-100,1050) A8(-100,850) A10(-100,650) A12(-100,450) A14(-100,250) A16(-100,50) A18(-100,-150) A20(-100,-350) A22(-100,-550) A24(-100,-750) A26(-100,-950) A28(-100,-1150) A30(-100,-1350) A32(-100,-1550) C2(100,1450) C4(100,1250) C6(100,1050) C8(100,850) C10(100,650) C12(100,450) C14(100,250) C16(100,50) C18(100,-150) C20(100,-350) C22(100,-550) C24(100,-750) C26(100,-950) C28(100,-1150) C30(100,-1350) C32(100,-1550)
Bottom Layer keep-out:
  circle w76: c-11.81,1771.65 r78.74
  circle w76: c-11.81,-1771.65 r78.74
Top Overlay:
  lines w8: -125.98,-1862.2 -125.98,-1724.41 -74.8,-1673.23 ; -125.98,1862.2 -125.98,1724.41 -74.8,1673.23 ; 102.36,-1862.2 102.36,-1724.41 47.24,-1669.29 ; 102.36,1862.2 102.36,1724.41 47.24,1669.29 ; 47.24,-1669.29 47.24,-1629.92 161.42,-1629.92 161.42,1629.92 47.24,1629.92 47.24,1669.29 ; 47.24,-1669.29 -161.42,-1669.29 -161.42,1669.29 47.24,1669.29 ; -204.72,-1866.14 204.72,-1866.14 204.72,1866.14 -204.72,1866.14 -204.72,-1866.14
  text "DIN 41612-D" at 25,950 h77.5
  text "a2" at -125,1525 h62
  text "c2" at 75,1525 h62
Via Holes:
  circle w76: c-11.81,1771.65 r78.74
  circle w76: c-11.81,-1771.65 r78.74